# Altium footprint library SMD-Q  0607.PcbLib: 73 footprints (part 4 of 5)
Each footprint in its own frame and in the unit in brackets; x right, y up, seen from the top. Pads: shape width x height; smd on the part's side, far side on the other; paste and mask are expansions set on the pad; w line width, h text height; cw(c..) or ccw(c..) is an arc to the next point about the centre after c.
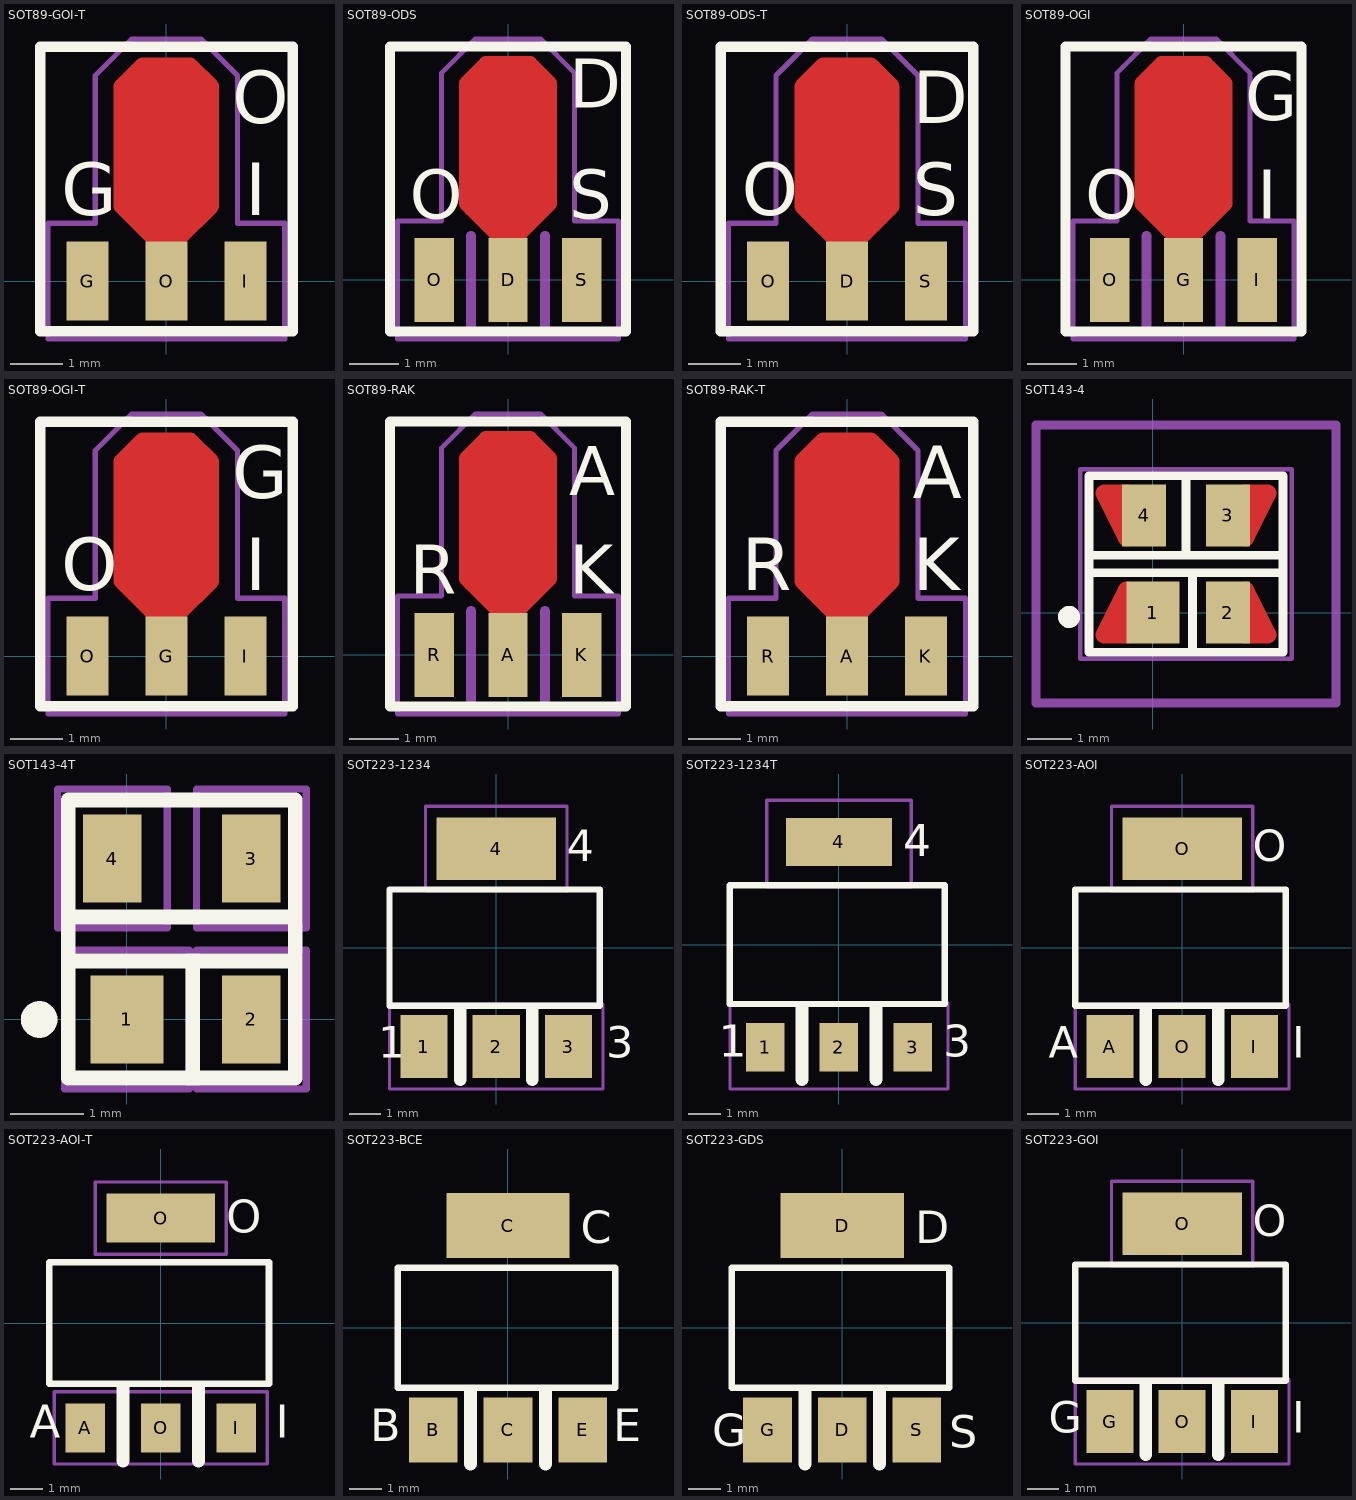
[diagram p3: the footprints below, top view; thin cyan lines are the x and y axes]

## SOT89-GOI-T [mm]
pads (3):
  rect 0.8x1.5 smd: G(-1.5,0) I(1.5,0) O(0,0)
Top Layer:
  lines w0.3: -0.8,1.5 -0.8,1.4 -0.2,0.8 0.2,0.8 ; -0.75,1.35 -0.75,3.75 ; -0.5,1.1 -0.5,3.9 ; -0.3,1 -0.3,4 ; -0.25,0.825 -0.85,1.425 -0.85,3.7 -0.45,4.1 0.45,4.1 0.85,3.7 0.85,1.425 ; -0.1,0.8 -0.1,4.1 ; 0.1,0.8 0.1,4 ; 0.3,0.9 0.3,4.1 ; 0.5,1.2 0.5,3.9 ; 0.7,3.8 0.7,1.3 0.2,0.8 ; 0.8,1.4 0.2,0.8 ; 0.85,1.425 0.25,0.825 0.85,1.425
Top Overlay:
  lines w0.2: -2.4,-0.95 -2.4,4.45 2.4,4.45 2.4,-0.95 -2.4,-0.95
  text "G" at -2,1.25 h1
  text "O" at 1.25,3 h1
  text "I" at 1.5,1.25 h1
Top Solder:
  lines w0.2: -0.75,2.575 -0.75,3.875 ; -0.65,2.575 -0.65,3.875 ; -0.55,2.575 -0.55,3.875 ; -0.5,4 0.5,4 ; -0.45,2.575 -0.45,3.875 ; -0.35,2.575 -0.35,3.875 ; -0.25,2.575 -0.25,3.875 ; -0.15,2.575 -0.15,3.875 ; -0.05,2.575 -0.05,3.875 ; 0.05,2.575 0.05,3.875 ; 0.15,2.575 0.15,3.875 ; 0.25,2.575 0.25,3.875 ; 0.35,2.575 0.35,3.875 ; 0.45,2.575 0.45,3.875 ; 0.55,2.575 0.55,3.875 ; 0.65,2.575 0.65,3.875 ; 0.75,2.575 0.75,3.875 ; -0.9,2.55 0.9,2.55 0.9,3.725 0.475,4.15 -0.475,4.15 -0.9,3.725 -0.9,2.55
Mechanical 15:
  lines w0.1: -2.25,-1.1 -2.25,1.1 -1.35,1.1 -1.35,3.907 -0.657,4.6 0.657,4.6 1.35,3.907 1.35,1.1 2.25,1.1 2.25,-1.1 -2.25,-1.1

## SOT89-ODS [mm]
height 1.6
pads (3):
  rect 0.8x1.7 smd: D(0,0) O(-1.5,0) S(1.5,0)
Top Layer:
  lines w0.3: -0.75,4 -0.75,1.45 -0.1,0.8 ; -0.1,0.8 -0.85,1.55 -0.85,4 -0.45,4.4 0.45,4.4 0.85,4 0.85,1.55 0.1,0.8 -0.1,0.8
  lines w0.5: -0.45,1.425 -0.45,4.125 -0.275,4.3 ; 0.3,4.3 0.6,4 0.6,1.525
  lines w1: 0.025,1.325 0.025,3.85
Top Overlay:
  lines w0.2: -2.4,-1.05 2.4,-1.05 2.4,4.75 -2.4,4.75 -2.4,-1.05
  text "S" at 1.25,1.25 h1
  text "D" at 1.25,3.5 h1
  text "O" at -2,1.25 h1
Top Solder:
  lines w0.2: -0.7,2.7 -0.7,4.1 ; -0.9,2.65 -0.9,4.025 -0.475,4.45 0.475,4.45 0.9,4.025 0.9,2.65 -0.9,2.65
  lines w0.3: -0.8,2.7 -0.8,4 ; -0.6,2.7 -0.6,4.2 -0.4,4.4 -0.4,2.7 ; -0.2,2.7 -0.2,4.4 ; 0,2.7 0,4.4 ; 0.2,2.7 0.2,4.4 ; 0.4,2.7 0.4,4.4 ; 0.6,2.7 0.6,4.2 ; 0.8,2.7 0.8,4
Mechanical 9:
  lines w0.2: -0.75,-0.95 -0.75,0.9 -0.75,-0.95 ; 0.75,-0.95 0.75,0.9 0.75,-0.95
Mechanical 16:
  lines w0.1: -2.25,-1.2 2.25,-1.2 2.25,1.2 1.35,1.2 1.35,4.213 0.663,4.9 -0.663,4.9 -1.35,4.213 -1.35,1.2 -2.25,1.2 -2.25,-1.2

## SOT89-ODS-T [mm]
pads (3):
  rect 0.8x1.5 smd: D(0,0) O(-1.5,0) S(1.5,0)
Top Layer:
  lines w0.3: -0.8,1.5 -0.8,1.4 -0.2,0.8 0.2,0.8 ; -0.75,1.35 -0.75,3.75 ; -0.5,1.1 -0.5,3.9 ; -0.3,1 -0.3,4 ; -0.25,0.825 -0.85,1.425 -0.85,3.7 -0.45,4.1 0.45,4.1 0.85,3.7 0.85,1.425 ; -0.1,0.8 -0.1,4.1 ; 0.1,0.8 0.1,4 ; 0.3,0.9 0.3,4.1 ; 0.5,1.2 0.5,3.9 ; 0.7,3.8 0.7,1.3 0.2,0.8 ; 0.8,1.4 0.2,0.8 ; 0.85,1.425 0.25,0.825 0.85,1.425
Top Overlay:
  lines w0.2: -2.4,-0.95 2.4,-0.95 2.4,4.45 -2.4,4.45 -2.4,-0.95
  text "S" at 1.25,1.25 h1
  text "D" at 1.25,3 h1
  text "O" at -2,1.25 h1
Top Solder:
  lines w0.2: -0.75,2.575 -0.75,3.875 ; -0.65,2.575 -0.65,3.875 ; -0.55,2.575 -0.55,3.875 ; -0.5,4 0.5,4 ; -0.45,2.575 -0.45,3.875 ; -0.35,2.575 -0.35,3.875 ; -0.25,2.575 -0.25,3.875 ; -0.15,2.575 -0.15,3.875 ; -0.05,2.575 -0.05,3.875 ; 0.05,2.575 0.05,3.875 ; 0.15,2.575 0.15,3.875 ; 0.25,2.575 0.25,3.875 ; 0.35,2.575 0.35,3.875 ; 0.45,2.575 0.45,3.875 ; 0.55,2.575 0.55,3.875 ; 0.65,2.575 0.65,3.875 ; 0.75,2.575 0.75,3.875 ; -0.9,2.55 -0.9,3.725 -0.475,4.15 0.475,4.15 0.9,3.725 0.9,2.55 -0.9,2.55
Mechanical 15:
  lines w0.1: -2.25,-1.1 2.25,-1.1 2.25,1.1 1.35,1.1 1.35,3.907 0.657,4.6 -0.657,4.6 -1.35,3.907 -1.35,1.1 -2.25,1.1 -2.25,-1.1

## SOT89-OGI [mm] "78XX"
height 1.6
pads (3):
  rect 0.8x1.7 smd: G(0,0) I(1.5,0) O(-1.5,0)
Top Layer:
  lines w0.3: -0.75,4 -0.75,1.45 -0.1,0.8 ; -0.1,0.8 0.1,0.8 0.85,1.55 0.85,4 0.45,4.4 -0.45,4.4 -0.85,4 -0.85,1.55 -0.1,0.8
  lines w0.5: -0.45,1.425 -0.45,4.125 -0.275,4.3 ; 0.3,4.3 0.6,4 0.6,1.525
  lines w1: 0.025,1.325 0.025,3.85
Top Overlay:
  lines w0.2: -2.4,-1.05 -2.4,4.75 2.4,4.75 2.4,-1.05 -2.4,-1.05
  text "O" at -2,1.25 h1
  text "G" at 1.25,3.25 h1
  text "I" at 1.5,1.25 h1
Top Solder:
  lines w0.2: -0.7,2.7 -0.7,4.1 ; -0.9,2.65 0.9,2.65 0.9,4.025 0.475,4.45 -0.475,4.45 -0.9,4.025 -0.9,2.65
  lines w0.3: -0.8,2.7 -0.8,4 ; -0.6,2.7 -0.6,4.2 -0.4,4.4 -0.4,2.7 ; -0.2,2.7 -0.2,4.4 ; 0,2.7 0,4.4 ; 0.2,2.7 0.2,4.4 ; 0.4,2.7 0.4,4.4 ; 0.6,2.7 0.6,4.2 ; 0.8,2.7 0.8,4
Mechanical 9:
  lines w0.2: -0.75,-0.95 -0.75,0.9 -0.75,-0.95 ; 0.75,-0.95 0.75,0.9 0.75,-0.95
Mechanical 16:
  lines w0.1: -2.25,-1.2 -2.25,1.2 -1.35,1.2 -1.35,4.213 -0.663,4.9 0.663,4.9 1.35,4.213 1.35,1.2 2.25,1.2 2.25,-1.2 -2.25,-1.2

## SOT89-OGI-T [mm] "78XX"
height 1.6
pads (3):
  rect 0.8x1.5 smd: G(0,0) I(1.5,0) O(-1.5,0)
Top Layer:
  lines w0.3: -0.8,1.5 -0.8,1.4 -0.2,0.8 0.2,0.8 ; -0.75,1.35 -0.75,3.75 ; -0.5,1.1 -0.5,3.9 ; -0.3,1 -0.3,4 ; -0.25,0.825 -0.85,1.425 -0.85,3.7 -0.45,4.1 0.45,4.1 0.85,3.7 0.85,1.425 ; -0.1,0.8 -0.1,4.1 ; 0.1,0.8 0.1,4 ; 0.3,0.9 0.3,4.1 ; 0.5,1.2 0.5,3.9 ; 0.7,3.8 0.7,1.3 0.2,0.8 ; 0.8,1.4 0.2,0.8 ; 0.85,1.425 0.25,0.825 0.85,1.425
Top Overlay:
  lines w0.2: -2.4,-0.95 -2.4,4.45 2.4,4.45 2.4,-0.95 -2.4,-0.95
  text "O" at -2,1.25 h1
  text "G" at 1.25,3 h1
  text "I" at 1.5,1.25 h1
Top Solder:
  lines w0.2: -0.75,2.575 -0.75,3.875 ; -0.65,2.575 -0.65,3.875 ; -0.55,2.575 -0.55,3.875 ; -0.5,4 0.5,4 ; -0.45,2.575 -0.45,3.875 ; -0.35,2.575 -0.35,3.875 ; -0.25,2.575 -0.25,3.875 ; -0.15,2.575 -0.15,3.875 ; -0.05,2.575 -0.05,3.875 ; 0.05,2.575 0.05,3.875 ; 0.15,2.575 0.15,3.875 ; 0.25,2.575 0.25,3.875 ; 0.35,2.575 0.35,3.875 ; 0.45,2.575 0.45,3.875 ; 0.55,2.575 0.55,3.875 ; 0.65,2.575 0.65,3.875 ; 0.75,2.575 0.75,3.875 ; -0.9,2.55 0.9,2.55 0.9,3.725 0.475,4.15 -0.475,4.15 -0.9,3.725 -0.9,2.55
Mechanical 15:
  lines w0.1: -2.25,-1.1 2.25,-1.1 2.25,1.1 1.35,1.1 1.35,3.907 0.657,4.6 -0.657,4.6 -1.35,3.907 -1.35,1.1 -2.25,1.1 -2.25,-1.1

## SOT89-RAK [mm]
height 1.6
pads (3):
  rect 0.8x1.7 smd: A(0,0) K(1.5,0) R(-1.5,0)
Top Layer:
  lines w0.3: -0.75,1.45 -0.75,4 ; -0.85,1.55 -0.85,4 -0.45,4.4 0.45,4.4 0.85,4 0.85,1.55 0.1,0.8 -0.1,0.8 -0.85,1.55
  lines w0.5: -0.45,1.425 -0.45,4.125 -0.275,4.3 ; 0.3,4.3 0.6,4 0.6,1.525
  lines w1: 0.025,1.325 0.025,3.85
Top Overlay:
  lines w0.2: -2.4,-1.05 -2.4,4.75 2.4,4.75 2.4,-1.05 -2.4,-1.05
  text "R" at -2,1.25 h1
  text "A" at 1.25,3.25 h1
  text "K" at 1.25,1.25 h1
Top Solder:
  lines w0.2: -0.7,2.7 -0.7,4.1 ; -0.9,2.65 0.9,2.65 0.9,4.025 0.475,4.45 -0.475,4.45 -0.9,4.025 -0.9,2.65
  lines w0.3: -0.8,2.7 -0.8,4 ; -0.6,2.7 -0.6,4.2 -0.4,4.4 -0.4,2.7 ; -0.2,2.7 -0.2,4.4 ; 0,2.7 0,4.4 ; 0.2,2.7 0.2,4.4 ; 0.4,2.7 0.4,4.4 ; 0.6,2.7 0.6,4.2 ; 0.8,2.7 0.8,4
Mechanical 9:
  lines w0.2: -0.75,-0.95 -0.75,0.9 ; 0.75,-0.95 0.75,0.9
Mechanical 16:
  lines w0.1: -2.25,-1.2 2.25,-1.2 2.25,1.2 1.35,1.2 1.35,4.213 0.663,4.9 -0.663,4.9 -1.35,4.213 -1.35,1.2 -2.25,1.2 -2.25,-1.2

## SOT89-RAK-T [mm]
height 1.6
pads (3):
  rect 0.8x1.5 smd: A(0,0) K(1.5,0) R(-1.5,0)
Top Layer:
  lines w0.3: -0.8,1.5 -0.8,1.4 -0.2,0.8 0.2,0.8 ; -0.75,1.35 -0.75,3.75 ; -0.5,1.1 -0.5,3.9 ; -0.3,1 -0.3,4 ; -0.25,0.825 -0.85,1.425 -0.85,3.7 -0.45,4.1 0.45,4.1 0.85,3.7 0.85,1.425 ; -0.1,0.8 -0.1,4.1 ; 0.1,0.8 0.1,4 ; 0.3,0.9 0.3,4.1 ; 0.5,1.2 0.5,3.9 ; 0.7,3.8 0.7,1.3 0.2,0.8 ; 0.8,1.4 0.2,0.8 ; 0.85,1.425 0.25,0.825 0.85,1.425
Top Overlay:
  lines w0.2: -2.4,-0.95 2.4,-0.95 2.4,4.45 -2.4,4.45 -2.4,-0.95
  text "K" at 1.25,1.25 h1
  text "A" at 1.25,3 h1
  text "R" at -2,1.25 h1
Top Solder:
  lines w0.2: -0.75,2.575 -0.75,3.875 ; -0.65,2.575 -0.65,3.875 ; -0.55,2.575 -0.55,3.875 ; -0.5,4 0.5,4 ; -0.45,2.575 -0.45,3.875 ; -0.35,2.575 -0.35,3.875 ; -0.25,2.575 -0.25,3.875 ; -0.15,2.575 -0.15,3.875 ; -0.05,2.575 -0.05,3.875 ; 0.05,2.575 0.05,3.875 ; 0.15,2.575 0.15,3.875 ; 0.25,2.575 0.25,3.875 ; 0.35,2.575 0.35,3.875 ; 0.45,2.575 0.45,3.875 ; 0.55,2.575 0.55,3.875 ; 0.65,2.575 0.65,3.875 ; 0.75,2.575 0.75,3.875 ; -0.9,2.55 0.9,2.55 0.9,3.725 0.475,4.15 -0.475,4.15 -0.9,3.725 -0.9,2.55
Mechanical 15:
  lines w0.1: -2.25,-1.1 -2.25,1.1 -1.35,1.1 -1.35,3.907 -0.657,4.6 0.657,4.6 1.35,3.907 1.35,1.1 2.25,1.1 2.25,-1.1 -2.25,-1.1

## SOT143-4 [mm]
height 1.1
pads (4):
  rect 1.2x1.4 smd: 1(0,0)
  rect 1x1.4 smd: 2(1.7,0) 3(1.7,2.2) 4(-0.2,2.2)
Top Layer:
  lines w0.4: -1.1,-0.5 -0.6,0.5 -0.6,-0.5 -1.1,-0.5 ; -1.1,2.7 -0.6,2.7 -0.6,1.7 -1.1,2.7 ; 2.1,-0.5 2.1,0.5 2.6,-0.5 2.1,-0.5 ; 2.1,1.7 2.1,2.7 2.6,2.7 2.1,1.7
Top Overlay:
  circle w0.3: c-1.9,-0.1 r0.1
  lines w0.2: -1.45,0.9 2.95,0.9 ; -1.45,1.3 2.95,1.3 ; 0.75,1.4 0.75,3 ; 0.9,-0.9 0.9,0.875 ; -1.45,-0.9 2.95,-0.9 2.95,3.1 -1.45,3.1 -1.45,-0.9
Top Solder:
  lines w0.4: -0.525,0.5 -0.8,-0.5 -0.2,-0.5 ; -0.525,1.7 -0.8,2.7 -0.2,2.7 ; 1.7,-0.5 2.3,-0.5 2.025,0.5 ; 1.7,2.7 2.3,2.7 2.025,1.7 ; -1.1,-0.5 -0.6,0.5 -0.6,-0.5 -1.1,-0.5 ; -1.1,2.7 -0.6,2.7 -0.6,1.7 -1.1,2.7 ; 2.1,-0.5 2.1,0.5 2.6,-0.5 2.1,-0.5 ; 2.1,1.7 2.1,2.7 2.6,2.7 2.1,1.7
Mechanical 8:
  lines w0.2: -2.65,-2.05 -2.65,4.25 4.15,4.25 4.15,-2.05 -2.65,-2.05
Mechanical 16:
  lines w0.1: -1.65,-1.05 -1.65,3.25 3.15,3.25 3.15,-1.05 -1.65,-1.05

## SOT143-4T [mm]
height 1.1
pads (4):
  rect 1x1.2 smd: 1(0,0)
  rect 0.8x1.2 smd: 2(1.7,0) 3(1.7,2.2) 4(-0.2,2.2)
Top Overlay:
  circle w0.3: c-1.2,0 r0.1
  lines w0.2: -0.8,0.8 2.3,0.8 ; -0.8,1.4 2.3,1.4 ; 0.9,-0.8 0.9,0.8 ; -0.8,-0.8 -0.8,3 2.3,3 2.3,-0.8 -0.8,-0.8
Mechanical 15:
  lines w0.1: -0.95,1.25 0.55,1.25 0.55,3.15 -0.95,3.15 -0.95,1.25 ; -0.85,-0.95 -0.85,0.95 0.85,0.95 0.85,-0.95 -0.85,-0.95 ; 0.95,-0.95 0.95,0.95 2.45,0.95 2.45,-0.95 0.95,-0.95 ; 0.95,1.25 0.95,3.15 2.45,3.15 2.45,1.25 0.95,1.25

## SOT223-1234 [mm]
height 1.75
pads (4):
  rect 1.5x2 smd: 1(-2.3,-3.15) 2(0,-3.15) 3(2.3,-3.15)
  rect 3.8x2 smd: 4(0,3.15)
Top Overlay:
  lines w0.2: -3.4,-1.85 3.3,-1.85 3.3,1.85 -3.4,1.85 -3.4,-1.85
  lines w0.4: -1.15,-4.2 -1.15,-2 ; 1.15,-4.2 1.15,-2
  text "3" at 3.5,-3.5 h1
  text "1" at -3.75,-3.5 h1
  text "4" at 2.25,2.75 h1
Mechanical 15:
  lines w0.1: -3.4,-4.5 3.4,-4.5 3.4,-1.8 -3.4,-1.8 -3.4,-4.5 ; -2.25,1.8 -2.25,4.5 2.25,4.5 2.25,1.8 -2.25,1.8
Mechanical 16:
  lines w0.1: -3.4,-4.5 3.4,-4.5 3.4,-1.8 -3.4,-1.8 -3.4,-4.5 ; -2.25,1.8 -2.25,4.5 2.25,4.5 2.25,1.8 -2.25,1.8

## SOT223-1234T [mm]
height 1.75
pads (4):
  rect 1.2x1.5 smd: 1(-2.3,-3.2) 2(0,-3.2) 3(2.3,-3.2)
  rect 3.3x1.5 smd: 4(0,3.2)
Top Overlay:
  lines w0.2: -3.4,-1.85 -3.4,1.85 3.3,1.85 3.3,-1.85 -3.4,-1.85
  lines w0.4: -1.15,-4.2 -1.15,-2 ; 1.15,-4.2 1.15,-2
  text "3" at 3.25,-3.5 h1
  text "1" at -3.75,-3.5 h1
  text "4" at 2,2.75 h1
Mechanical 15:
  lines w0.1: -3.4,-4.5 -3.4,-1.8 3.4,-1.8 3.4,-4.5 -3.4,-4.5 ; -2.25,1.8 2.25,1.8 2.25,4.5 -2.25,4.5 -2.25,1.8
Mechanical 16:
  lines w0.1: -3.4,-4.5 -3.4,-1.8 3.4,-1.8 3.4,-4.5 -3.4,-4.5 ; -2.25,1.8 2.25,1.8 2.25,4.5 -2.25,4.5 -2.25,1.8

## SOT223-AOI [mm]
height 1.7
pads (4):
  rect 1.5x2 smd: A(-2.3,-3.15) I(2.3,-3.15) O(0,-3.15)
  rect 3.8x2 smd: O(0,3.15)
Top Overlay:
  lines w0.2: -3.4,-1.85 -3.4,1.85 3.3,1.85 3.3,-1.85 -3.4,-1.85
  lines w0.4: -1.15,-4.2 -1.15,-2 ; 1.15,-4.2 1.15,-2
  text "O" at 2.25,2.75 h1
  text "A" at -4.25,-3.5 h1
  text "I" at 3.5,-3.5 h1
Mechanical 16:
  lines w0.1: -3.4,-4.5 3.4,-4.5 3.4,-1.8 -3.4,-1.8 -3.4,-4.5 ; -2.25,1.8 2.25,1.8 2.25,4.5 -2.25,4.5 -2.25,1.8

## SOT223-AOI-T [mm]
height 1.7
pads (4):
  rect 1.2x1.5 smd: A(-2.3,-3.2) I(2.3,-3.2) O(0,-3.2)
  rect 3.3x1.5 smd: O(0,3.2)
Top Overlay:
  lines w0.2: -3.4,-1.85 3.3,-1.85 3.3,1.85 -3.4,1.85 -3.4,-1.85
  lines w0.4: -1.15,-4.2 -1.15,-2 ; 1.15,-4.2 1.15,-2
  text "I" at 3.5,-3.5 h1
  text "A" at -4,-3.5 h1
  text "O" at 2,2.75 h1
Mechanical 15:
  lines w0.1: -3.25,-4.3 -3.25,-2.1 3.25,-2.1 3.25,-4.3 -3.25,-4.3 ; -2,2.1 -2,4.3 2,4.3 2,2.1 -2,2.1

## SOT223-BCE [mm]
height 1.7
pads (4):
  rect 1.5x2 smd: B(-2.3,-3.15) C(0,-3.15) E(2.3,-3.15)
  rect 3.8x2 smd: C(0,3.15)
Top Overlay:
  lines w0.2: -3.4,-1.85 -3.4,1.85 3.3,1.85 3.3,-1.85 -3.4,-1.85
  lines w0.4: -1.15,-4.2 -1.15,-2 ; 1.15,-4.2 1.15,-2
  text "C" at 2.25,2.6 h1
  text "B" at -4.25,-3.5 h1
  text "E" at 3.25,-3.5 h1

## SOT223-GDS [mm]
height 1.7
pads (4):
  rect 1.5x2 smd: D(0,-3.15) G(-2.3,-3.15) S(2.3,-3.15)
  rect 3.8x2 smd: D(0,3.15)
Top Overlay:
  lines w0.2: -3.4,-1.85 -3.4,1.85 3.3,1.85 3.3,-1.85 -3.4,-1.85
  lines w0.4: -1.15,-4.2 -1.15,-2 ; 1.15,-4.2 1.15,-2
  text "D" at 2.25,2.6 h1
  text "G" at -4,-3.65 h1
  text "S" at 3.3,-3.7 h1

## SOT223-GOI [mm]
height 1.7
pads (4):
  rect 1.5x2 smd: G(-2.3,-3.15) I(2.3,-3.15) O(0,-3.15)
  rect 3.8x2 smd: O(0,3.15)
Top Overlay:
  lines w0.2: -3.4,-1.85 -3.4,1.85 3.3,1.85 3.3,-1.85 -3.4,-1.85
  lines w0.4: -1.15,-4.2 -1.15,-2 ; 1.15,-4.2 1.15,-2
  text "O" at 2.25,2.75 h1
  text "G" at -4.25,-3.5 h1
  text "I" at 3.5,-3.5 h1
Mechanical 16:
  lines w0.1: -3.4,-4.5 -3.4,-1.8 3.4,-1.8 3.4,-4.5 -3.4,-4.5 ; -2.25,1.8 2.25,1.8 2.25,4.5 -2.25,4.5 -2.25,1.8